# EAGLE library part 74*680 (library 74)
12-bit address COMPARATOR, latch
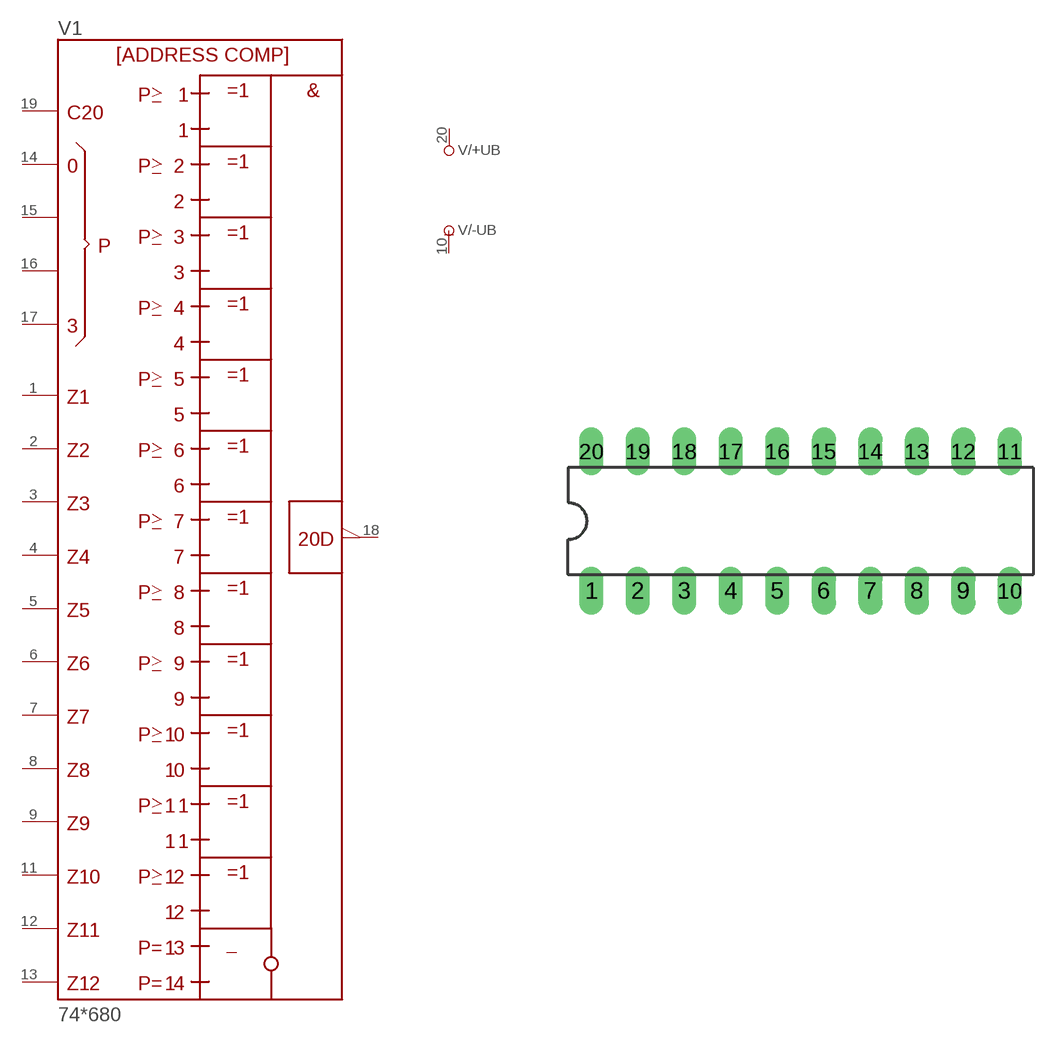
[diagram p147: symbol with the pads of DIL20; footprint DIL20]

Designator prefix V; gates /+UB=+UB /-UB=-UB 1=680

## 74680N  [DIL20]
1  1:A1  in
2  1:A2  in
3  1:A3  in
4  1:A4  in
5  1:A5  in
6  1:A6  in
7  1:A7  in
8  1:A8  in
9  1:A9  in
10  /-UB:-UB  pwr
11  1:A10  in
12  1:A11  in
13  1:A12  in
14  1:P0  in
15  1:P1  in
16  1:P2  in
17  1:P3  in
18  1:Y  out
19  1:C  in
20  /+UB:+UB  pwr

## Footprint DIL20 (pad centres in mm)
Dual In Line Package
drill 0.813 long: 1 -11.43,-3.81; 2 -8.89,-3.81; 3 -6.35,-3.81; 4 -3.81,-3.81; 5 -1.27,-3.81; 6 1.27,-3.81; 7 3.81,-3.81; 8 6.35,-3.81; 9 8.89,-3.81; 10 11.43,-3.81; 11 11.43,3.81; 12 8.89,3.81; 13 6.35,3.81; 14 3.81,3.81; 15 1.27,3.81; 16 -1.27,3.81; 17 -3.81,3.81; 18 -6.35,3.81; 19 -8.89,3.81; 20 -11.43,3.81